# Altium schematic symbol library SCH - POWER - SWITCHMODE - ON SEMI NCP1406.SCHLIB: 1 symbol
Pins are listed as number, name and electrical type; pins without a type are passive.

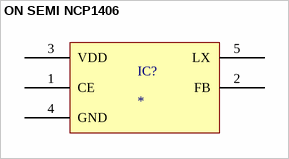
[diagram p0: symbol ON SEMI NCP1406]

## ON SEMI NCP1406
designator IC?
pins: 1 CE, 2 FB, 3 VDD, 4 GND, 5 LX